# EAGLE library part QUAD_OP_AMP (library libami)
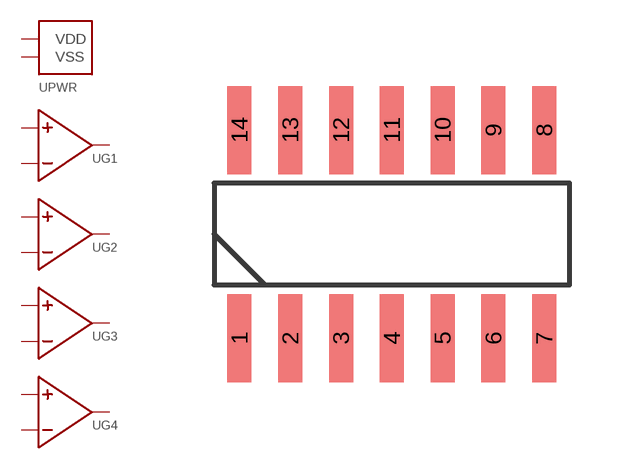
[diagram p2: symbol with the pads of SO-14; footprint SO-14]

Designator prefix U; gates G1=OP_AMP G2=OP_AMP G3=OP_AMP G4=OP_AMP PWR=OP_AMP_CHIP

## QUAD_OP_AMP  [SO-14]
1  G1:OUT  out
2  G1:-  in
3  G1:+  in
4  PWR:VDD  pwr
5  G2:+  in
6  G2:-  in
7  G2:OUT  out
8  G3:OUT  out
9  G3:-  in
10  G3:+  in
11  PWR:VSS  pwr
12  G4:+  in
13  G4:-  in
14  G4:OUT  out

## Footprint SO-14 (pad centres in mm)
Small Outline Narrow Plastic Gull Wing 150-mil body, package type SL
smd 0.6 x 2.2: 1 -3.81,-2.6; 2 -2.54,-2.6; 3 -1.27,-2.6; 4 0,-2.6; 5 1.27,-2.6; 6 2.54,-2.6; 7 3.81,-2.6; 8 3.81,2.6; 9 2.54,2.6; 10 1.27,2.6; 11 0,2.6; 12 -1.27,2.6; 13 -2.54,2.6; 14 -3.81,2.6